# EAGLE library part SCHMITT (library PNP)
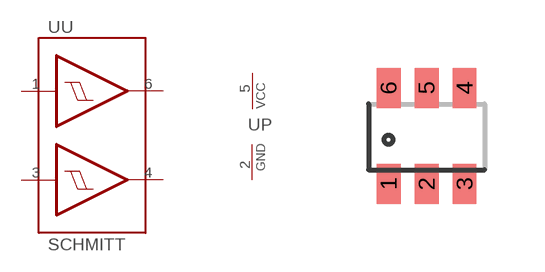
[diagram p15: symbol with the pads of TSOP6; footprint TSOP6]

Designator prefix -; gates U=SCHMITT P=PWRN-1

## SCHMITTTSOP (DIGIKEY: 568-4618-1-ND; MFN: 74LVC2G17GV,125)  [TSOP6]
1  U:I1  in
2  P:GND  pwr
3  U:I2  in
4  U:O2  out
5  P:VCC  pwr
6  U:O1  out

## Footprint TSOP6 (pad centres in mm)
SMALL OUTLINE PACKAGE
smd 0.6 x 1: 1 0,-2.4; 2 0.95,-2.4; 3 1.9,-2.4; 4 1.9,0; 5 0.95,0; 6 0,0